# EAGLE library part BLE112 (library Bluegiga)
Bluetooth low energy single mode module is a single mode device targeted for low power sensors and accessories.
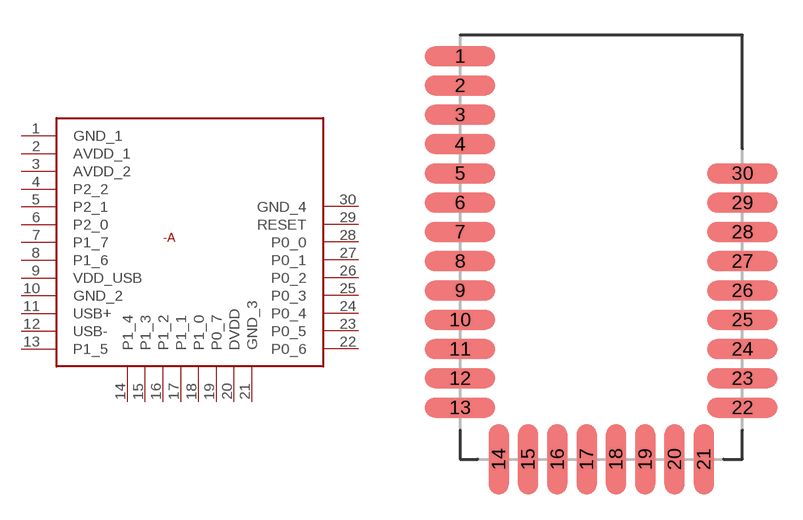
[diagram p0: symbol with the pads of BLE112-A; footprint BLE112-A]

Designator prefix -A

## BLE112  [BLE112-A]
1  GND_1  sup
2  AVDD_1  pwr
3  AVDD_2  pwr
4  P2_2
5  P2_1
6  P2_0
7  P1_7
8  P1_6
9  VDD_USB  pwr
10  GND_2  sup
11  USB+
12  USB-
13  P1_5
14  P1_4
15  P1_3
16  P1_2
17  P1_1
18  P1_0
19  P0_7
20  DVDD  pwr
21  GND_3  sup
22  P0_6
23  P0_5
24  P0_4
25  P0_3
26  P0_2
27  P0_1
28  P0_0
29  RESET  in
30  GND_4  sup

## Footprint BLE112-A (pad centres in mm)
smd 3 x 0.85: 1 0,17.2; 2 0,15.95; 3 0,14.7; 4 0,13.45; 5 0,12.2; 6 0,10.95; 7 0,9.7; 8 0,8.45; 9 0,7.2; 10 0,5.95; 11 0,4.7; 12 0,3.45; 13 0,2.2; 22 12.05,2.2; 23 12.05,3.45; 24 12.05,4.7; 25 12.05,5.95; 26 12.05,7.2; 27 12.05,8.45; 28 12.05,9.7; 29 12.05,10.95; 30 12.05,12.2
smd 0.85 x 3: 14 1.65,0; 15 2.9,0; 16 4.15,0; 17 5.4,0; 18 6.65,0; 19 7.9,0; 20 9.15,0; 21 10.4,0